# Altium footprint library Battery Reader.PcbLib: 23 footprints (part 2 of 2)
Each footprint in its own frame and in the unit in brackets; x right, y up, seen from the top. Pads: shape width x height; smd on the part's side, far side on the other; paste and mask are expansions set on the pad; w line width, h text height; cw(c..) or ccw(c..) is an arc to the next point about the centre after c.
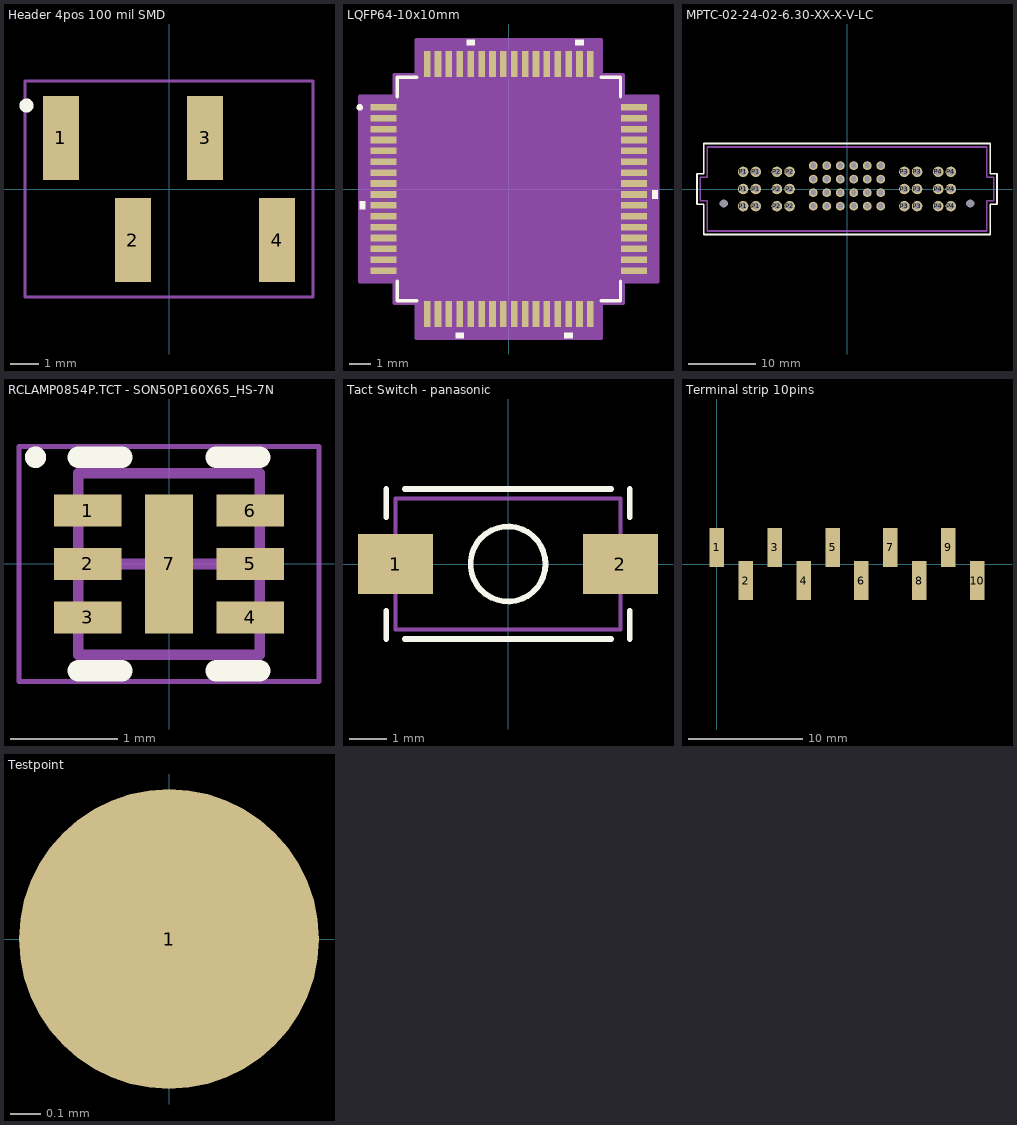
[diagram p1: the footprints below, top view; thin cyan lines are the x and y axes]

## Header 4pos 100 mil SMD [mm]
pads (4):
  rect 1.27x2.96 smd: 1(-3.81,1.8) 2(-1.27,-1.8) 3(1.27,1.8) 4(3.81,-1.8)
Top Overlay:
  circle w0.25: c-5.028,2.944 r0.125
Mechanical 15:
  lines w0.1: -5.08,-3.81 5.08,-3.81 5.08,3.81 -5.08,3.81 -5.08,-3.81
3D body "878980426.stp": height 9.6, standoff -0.05, extent -5.08,-2.4 5.08,2.4

## LQFP64-10x10mm [mm]
pads (64):
  rect 1.194x0.305 smd: 1(-5.75,3.75) 2(-5.75,3.25) 3(-5.75,2.75) 4(-5.75,2.25) 5(-5.75,1.75) 6(-5.75,1.25) 7(-5.75,0.75) 8(-5.75,0.25) 9(-5.75,-0.25) 10(-5.75,-0.75) 11(-5.75,-1.25) 12(-5.75,-1.75) 13(-5.75,-2.25) 14(-5.75,-2.75) 15(-5.75,-3.25) 16(-5.75,-3.75) 33(5.75,-3.75) 34(5.75,-3.25) 35(5.75,-2.75) 36(5.75,-2.25) 37(5.75,-1.75) 38(5.75,-1.25) 39(5.75,-0.75) 40(5.75,-0.25) 41(5.75,0.25) 42(5.75,0.75) 43(5.75,1.25) 44(5.75,1.75) 45(5.75,2.25) 46(5.75,2.75) 47(5.75,3.25) 48(5.75,3.75)
  rect 0.305x1.194 smd: 17(-3.75,-5.75) 18(-3.25,-5.75) 19(-2.75,-5.75) 20(-2.25,-5.75) 21(-1.75,-5.75) 22(-1.25,-5.75) 23(-0.75,-5.75) 24(-0.25,-5.75) 25(0.25,-5.75) 26(0.75,-5.75) 27(1.25,-5.75) 28(1.75,-5.75) 29(2.25,-5.75) 30(2.75,-5.75) 31(3.25,-5.75) 32(3.75,-5.75) 49(3.75,5.75) 50(3.25,5.75) 51(2.75,5.75) 52(2.25,5.75) 53(1.75,5.75) 54(1.25,5.75) 55(0.75,5.75) 56(0.25,5.75) 57(-0.25,5.75) 58(-0.75,5.75) 59(-1.25,5.75) 60(-1.75,5.75) 61(-2.25,5.75) 62(-2.75,5.75) 63(-3.25,5.75) 64(-3.75,5.75)
Top Overlay:
  circle w0.152: c-6.851,3.75 r0.076
  region: -6.601,-0.56 -6.855,-0.56 -6.855,-0.941 -6.601,-0.941
  region: -2.06,-6.601 -2.441,-6.601 -2.441,-6.855 -2.06,-6.855
  region: 2.94,-6.601 2.559,-6.601 2.559,-6.855 2.94,-6.855
  region: 6.601,-0.059 6.855,-0.059 6.855,-0.44 6.601,-0.44
  region: 3.441,6.601 3.06,6.601 3.06,6.855 3.441,6.855
  region: -1.559,6.601 -1.94,6.601 -1.94,6.855 -1.559,6.855
  lines w0.152: -5.131,-4.234 -5.131,-5.131 -4.234,-5.131 ; -5.131,4.234 -5.131,5.131 -4.234,5.131 ; 4.234,-5.131 5.131,-5.131 5.131,-4.234 ; 4.234,5.131 5.131,5.131 5.131,4.234
Mechanical 13:
  circle w0: c-4.518,3.75 r0.076
Mechanical 15:
  region: -4.258,-5.258 -5.258,-5.258 -5.258,-4.258 -6.855,-4.258 -6.855,4.258 -5.258,4.258 -5.258,5.258 -4.258,5.258 -4.258,6.855 4.258,6.855 4.258,5.258 5.258,5.258 5.258,4.258 6.855,4.258 6.855,-4.258 5.258,-4.258 5.258,-5.258 4.258,-5.258 4.258,-6.855 -4.258,-6.855
  lines w0.152: -6.855,-4.258 -5.258,-4.258 -5.258,-5.258 -4.258,-5.258 -4.258,-6.855 4.258,-6.855 4.258,-5.258 5.258,-5.258 5.258,-4.258 6.855,-4.258 6.855,4.258 5.258,4.258 5.258,5.258 4.258,5.258 4.258,6.855 -4.258,6.855 -4.258,5.258 -5.258,5.258 -5.258,4.258 -6.855,4.258 -6.855,-4.258
3D body "LQFP64-10x10mm.stp": height 1.6, standoff 0, extent -5.997,-5.997 5.997,5.997

## MPTC-02-24-02-6.30-XX-X-V-LC [mm] "Samtec Power Strip 30A series MPTC"
pads (50):
  round 0 hole 1.19 unplated: 0(-18.255,-2.145) 0(18.255,-2.145)
  round 1.3 hole 0.86 mask+0.075: A1(-5,-2.535) A2(-3,-2.535) A3(-1,-2.535) A4(1,-2.535) A5(3,-2.535) A6(5,-2.535) B1(-5,-0.535) B2(-3,-0.535) B3(-1,-0.535) B4(1,-0.535) B5(3,-0.535) B6(5,-0.535) C1(-5,1.465) C2(-3,1.465) C3(-1,1.465) C4(1,1.465) C5(3,1.465) C6(5,1.465) D1(-5,3.465) D2(-3,3.465) D3(-1,3.465) D4(1,3.465) D5(3,3.465) D6(5,3.465)
  round 1.56 hole 1.04 mask+0.075: P1(-15.385,-2.54) P1(-15.385,0) P1(-15.385,2.54) P1(-13.505,-2.54) P1(-13.505,0) P1(-13.505,2.54) P2(-10.385,-2.54) P2(-10.385,0) P2(-10.385,2.54) P2(-8.505,-2.54) P2(-8.505,0) P2(-8.505,2.54) P3(8.505,-2.54) P3(8.505,0) P3(8.505,2.54) P3(10.385,-2.54) P3(10.385,0) P3(10.385,2.54) P4(13.505,-2.54) P4(13.505,0) P4(13.505,2.54) P4(15.385,-2.54) P4(15.385,0) P4(15.385,2.54)
Top Overlay:
  lines w0.254: -22.22,-2.25 -22.22,2.25 -21.22,2.25 -21.22,6.725 21.22,6.725 21.22,2.25 22.22,2.25 22.22,-2.25 21.22,-2.25 21.22,-6.725 -21.234,-6.725 -21.234,-2.25 -22.22,-2.25
Mechanical 15:
  lines w0.254: -21.72,-1.75 -21.72,1.75 -20.72,1.75 -20.72,6.225 20.72,6.225 20.72,1.75 21.72,1.75 21.72,-1.75 20.72,-1.75 20.72,-6.225 -20.72,-6.225 -20.72,-1.75 -21.72,-1.75
3D body "MPTC-02-24-02-6.30-01-L-V.stp": height 11.38, standoff -2.72, extent -21.725,-6.225 21.725,6.225

## RCLAMP0854P.TCT - SON50P160X65_HS-7N [mm] "RCLAMP0854P.TCT - SON, 6-Leads, Body 1,60x1,60mm, Pitch 0,50mm, Thermal Pad 1,18x0,28mm, IPC Medium Density"
height 0.65
pads (7):
  rect 0.63x0.3 smd: 1(-0.76,0.5) 2(-0.76,0) 3(-0.76,-0.5) 4(0.76,-0.5) 5(0.76,0) 6(0.76,0.5)
  rect 0.45x1.3 smd: 7(0,0)
Top Overlay:
  circle w0.1: c-1.25,1 r0.05
  lines w0.2: -0.85,-1 -0.44,-1 ; -0.85,1 -0.44,1 ; 0.44,-1 0.85,-1 ; 0.44,1 0.85,1
Mechanical 15:
  lines w0.05: -1.405,-1.1 -1.405,1.1 1.405,1.1 1.405,-1.1 -1.405,-1.1
  lines w0.1: -0.5,0 0.5,0 ; 0,-0.5 0,0.5 ; -0.85,-0.85 -0.85,0.85 0.85,0.85 0.85,-0.85 -0.85,-0.85
3D body: height 0.65, standoff 0.05, extent -0.85,-0.85 0.85,0.85

## Tact Switch - panasonic [mm] "Tact Switch - panasonic"
height 5
pads (2):
  rect 2x1.6 smd: 1(-3,0) 2(3,0)
Top Overlay:
  circle w0.152: c0,0 r1
  lines w0.152: -3.25,-2 -3.25,-1.25 ; -3.25,1.25 -3.25,2 ; -2.75,-2 2.75,-2 ; -2.75,2 2.75,2 ; 3.25,-2 3.25,-1.25 ; 3.25,1.25 3.25,2
Mechanical 15:
  lines w0.1: -3,-1.75 -3,1.75 3,1.75 3,-1.75 -3,-1.75
3D body "User Library-EVQ-PE105K.step": height 5, standoff 0, extent -3.6,-1.75 3.6,1.75

## Terminal strip 10pins [mm] "Terminal strip 10pins"
pads (10):
  rect 1.27x3.43 smd: 1(0,1.46) 2(2.54,-1.46) 3(5.08,1.46) 4(7.62,-1.46) 5(10.16,1.46) 6(12.7,-1.46) 7(15.24,1.46) 8(17.78,-1.46) 9(20.32,1.46) 10(22.86,-1.46)
3D body "TSM-110-01-T-SV.stp": height 9.68, standoff 0.03, extent -1.3,-2.583 24.1,2.7

## Testpoint [mm] "Testpoint"
pads (1):
  round 1 smd: 1(0,0)